# Altium footprint library SMB.PcbLib: 3 footprints
Each footprint in its own frame and in the unit in brackets; x right, y up, seen from the top. Pads: shape width x height; smd on the part's side, far side on the other; paste and mask are expansions set on the pad; w line width, h text height; cw(c..) or ccw(c..) is an arc to the next point about the centre after c.
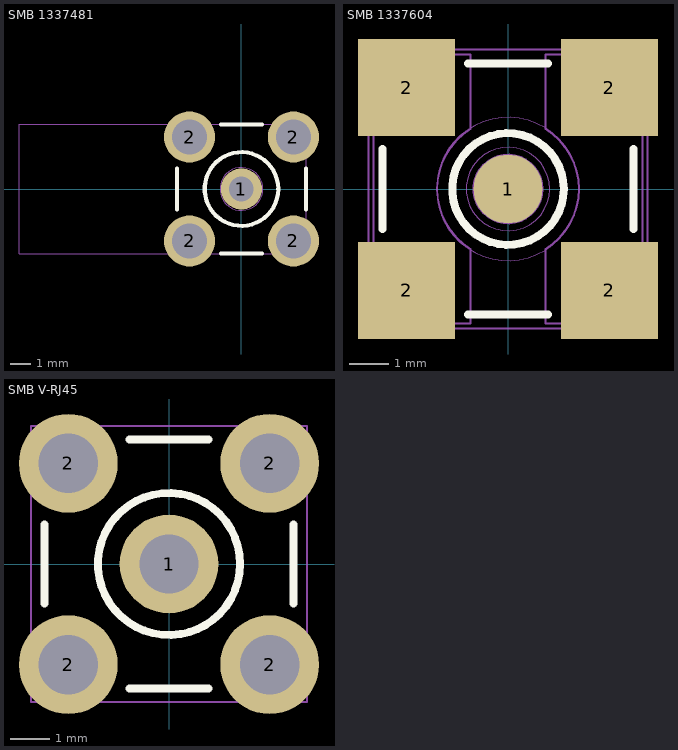
[diagram p0: the footprints below, top view; thin cyan lines are the x and y axes]

## SMB 1337481 [mm] "SMB 连接器"
height 7.1
pads (5):
  round 2 hole 1.2: 1(0,0)
  round 2.5 hole 1.7: 2(-2.54,-2.54) 2(-2.54,2.54) 2(2.54,-2.54) 2(2.54,2.54)
Top Overlay:
  circle w0.2: c0,0 r1.8
  lines w0.2: -3.15,-1 -3.15,1 ; -1,-3.15 1,-3.15 ; -1,3.15 1,3.15 ; 3.15,-1 3.15,1
Mechanical 1:
  circle w0.025: c0,0 r1.8
  circle w0.025: c0,0 r1.05
  circle w0.025: c0,0 r0.2
Mechanical 13:
  lines w0.05: -10.876,-3.175 3.175,-3.175 3.175,3.175 -10.876,3.175 -10.876,-3.175
Mechanical 15:
  lines w0.1: -0.5,0 0.5,0 ; 0,-0.5 0,0.5
3D body: height 7.1, standoff -3.9, extent -10.876,-3.175 3.175,3.175

## SMB 1337604 [mm] "SMB 贴片连接器"
height 7.7
pads (5):
  round 1.73 smd: 1(0,0)
  rect 2.44x2.44 smd: 2(-2.55,-2.55) 2(-2.55,2.55) 2(2.55,-2.55) 2(2.55,2.55)
Top Overlay:
  circle w0.2: c0,0 r1.403
  lines w0.2: -3.15,-1 -3.15,1 ; -1,-3.15 1,-3.15 ; -1,3.15 1,3.15 ; 3.15,-1 3.15,1
Mechanical 1:
  circle w0.025: c0,0 r1.8
  circle w0.025: c0,0 r1.05
  circle w0.025: c0,0 r0.2
Mechanical 13:
  lines w0.05: -3.5,-3.5 3.5,-3.5 3.5,3.5 -3.5,3.5 -3.5,-3.5
Mechanical 15:
  circle w0.05: c0,0 r0.865
  lines w0.05: -3.38,-3.38 -0.94,-3.38 -0.94,-1.512 cw(c0,0) -0.94,1.512 -0.94,3.38 -3.38,3.38 -3.38,-3.38 ; 0.94,-3.38 0.94,-1.512 ccw(c0,0) 0.94,1.512 0.94,3.38 3.38,3.38 3.38,-3.38 0.94,-3.38
  lines w0.1: -0.5,0 0.5,0 ; 0,-0.5 0,0.5
3D body: height 7.7, standoff 0, extent -3.176,-3.175 3.175,3.175

## SMB V-RJ45 [mm] "Connector; SMB Straight"
pads (5):
  round 2.5 hole 1.5: 1(0,0) 2(-2.55,-2.55) 2(-2.55,2.55) 2(2.55,-2.55) 2(2.55,2.55)
Top Overlay:
  circle w0.2: c0,0 r1.8
  lines w0.2: -3.15,-1 -3.15,1 ; -1,-3.15 1,-3.15 ; -1,3.15 1,3.15 ; 3.15,-1 3.15,1
Mechanical 1:
  circle w0.025: c0,0 r1.8
  circle w0.025: c0,0 r1.05
  circle w0.025: c0,0 r0.2
Mechanical 13:
  lines w0.05: -3.5,-3.5 3.5,-3.5 3.5,3.5 -3.5,3.5 -3.5,-3.5
Mechanical 15:
  lines w0.1: -0.5,0 0.5,0 ; 0,-0.5 0,0.5
3D body: height 7.7, standoff -3.8, extent -3.5,-3.501 3.5,3.5